# Altium footprint library PBD-6.PcbLib: 1 footprints
Each footprint in its own frame and in the unit in brackets; x right, y up, seen from the top. Pads: shape width x height; smd on the part's side, far side on the other; paste and mask are expansions set on the pad; w line width, h text height; cw(c..) or ccw(c..) is an arc to the next point about the centre after c.
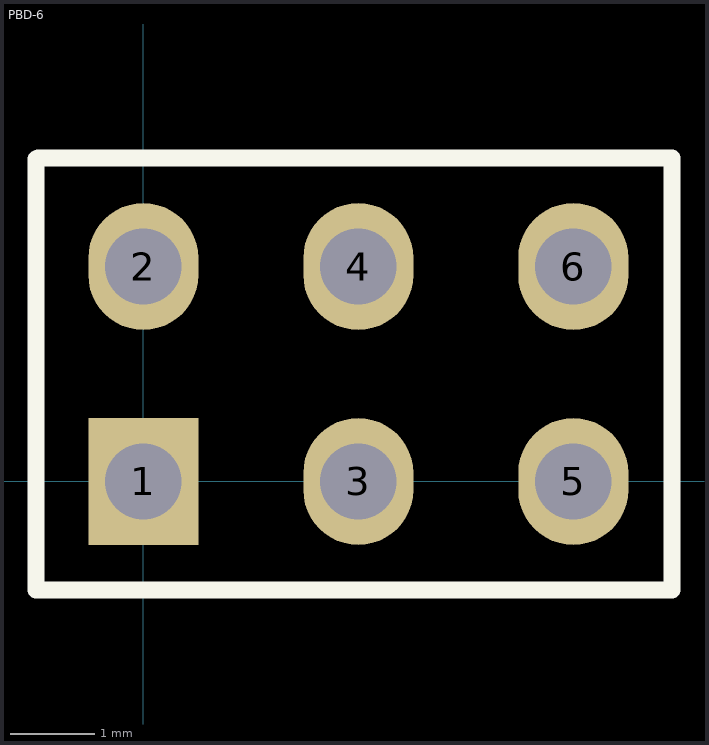
[diagram p0: the footprint, top view; thin cyan lines are the x and y axes]

## PBD-6 [mm]
pads (6):
  rect 1.3x1.5 hole 0.9: 1(0,0)
  oval 1.3x1.5 hole 0.9: 2(0,2.54) 3(2.54,0) 4(2.54,2.54) 5(5.08,0) 6(5.08,2.54)
Top Overlay:
  lines w0.2: -1.27,3.81 -1.27,-1.283 6.223,-1.283 ; -1.245,3.823 6.248,3.823 ; 6.244,-1.283 6.244,3.81
3D body "PBD_2.54_6.SLDPRT": height 8.4, standoff -2.29, extent -1.451,-1.254 6.419,3.746